# EAGLE library part 21298E (library MCP3208)
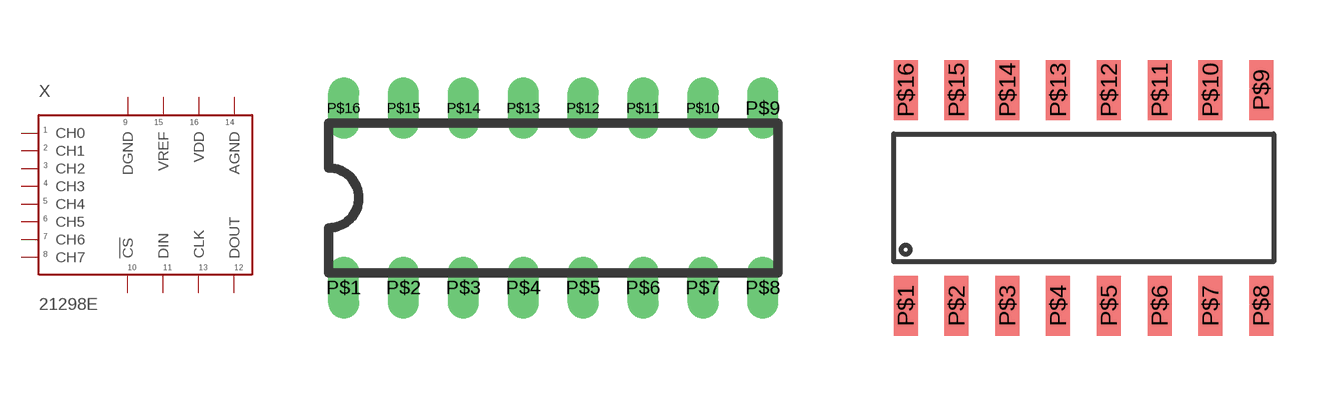
[diagram p0: symbol with the pads of DIP16; footprints DIP16, PDIP16]

Designator prefix X

## 21298EDIP  [DIP16]
P$1  CH0
P$2  CH1
P$3  CH2
P$4  CH3
P$5  CH4
P$6  CH5
P$7  CH6
P$8  CH7
P$9  DGND
P$10  !CS
P$11  DIN
P$12  DOUT
P$13  CLK
P$14  AGND
P$15  VREF
P$16  VDD

## 21298ESMD  [PDIP16]
Pads as for DIP16

## Footprint DIP16 (pad centres in mm)
drill 0.8 long: P$1 -10.16,-3.81; P$2 -7.62,-3.81; P$3 -5.08,-3.81; P$4 -2.54,-3.81; P$5 0,-3.81; P$6 2.54,-3.81; P$7 5.08,-3.81; P$8 7.62,-3.81; P$9 7.62,3.81; P$10 5.08,3.81; P$11 2.54,3.81; P$12 0,3.81; P$13 -2.54,3.81; P$14 -5.08,3.81; P$15 -7.62,3.81; P$16 -10.16,3.81

## Footprint PDIP16 (pad centres in mm)
smd 0.6 x 1.5: P$1 0,0; P$2 1.27,0; P$3 2.54,0; P$4 3.81,0; P$5 5.08,0; P$6 6.35,0; P$7 7.62,0; P$8 8.89,0; P$9 8.89,5.4; P$10 7.62,5.4; P$11 6.35,5.4; P$12 5.08,5.4; P$13 3.81,5.4; P$14 2.54,5.4; P$15 1.27,5.4; P$16 0,5.4